# Altium schematic symbol library DAC8811.SchLib: 1 symbol
Pins are listed as number, name and electrical type; pins without a type are passive.

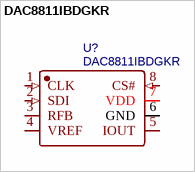
[diagram p0: symbol DAC8811IBDGKR]

## DAC8811IBDGKR
designator U?
建立时间为 0.5us 的 16 位单通道串行输入乘法 DAC; Manufacturer: TI(德州仪器); Manufacturer Part: DAC8801IDGKR; Contributor: LCSC; Supplier: LCSC; Supplier Part: C2862845; JLCPCB Part Class: Extended Part; spicePre: U; spiceSymbolName: DAC8801IDGKR
footprint VSSOP-8_L3.0-W3.0-P0.65-LS5.0-BL
pins: 1 CLK (in), 2 SDI (in), 3 RFB, 4 VREF, 5 IOUT, 6 GND (power), 7 VDD (power), 8 CS# (in)